# Altium schematic symbol library LED RGB CLEAR 4SMD.Schlib: 1 symbol
Pins are listed as number, name and electrical type; pins without a type are passive.

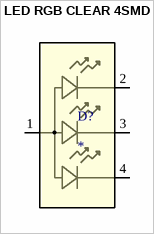
[diagram p0: symbol LED RGB CLEAR 4SMD]

## LED RGB CLEAR 4SMD
designator D?
LED RGB No Lead
footprint LED RGB APHF1608SEEQBDZGKC_KNB-L
pins: 1, 2, 3, 4